# Altium schematic symbol library InterfaceConverters.SchLib: 1 symbol
Pins are listed as number, name and electrical type; pins without a type are passive.

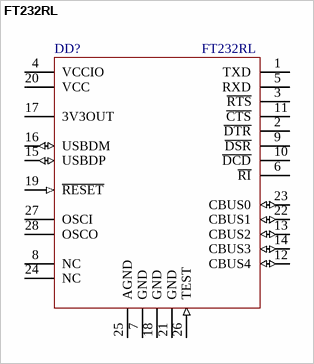
[diagram p0: symbol FT232RL]

## FT232RL
designator DD?
footprint SSOP65P780X200-28N (SSOP, 28-Leads, Body 10,20x5,30mm, Pitch 0,65mm, IPC Medium Density)
pins: 1 TXD (hiz), 2 ~{DTR} (hiz), 3 ~{RTS} (hiz), 4 VCCIO (power), 5 RXD (hiz), 6 ~{RI} (hiz), 7 GND (power), 8 NC, 9 ~{DSR} (hiz), 10 ~{DCD} (hiz), 11 ~{CTS} (hiz), 12 CBUS4 (io), 13 CBUS2 (io), 14 CBUS3 (io), 15 USBDP (io), 16 USBDM (io), 17 3V3OUT (power), 18 GND (power), 19 ~{RESET} (in), 20 VCC (power), 21 GND (power), 22 CBUS1 (io), 23 CBUS0 (io), 24 NC, 25 AGND (power), 26 TEST (in), 27 OSCI, 28 OSCO